# Altium footprint library PIF_HC05.PcbLib: 1 footprints
Each footprint in its own frame and in the unit in brackets; x right, y up, seen from the top. Pads: shape width x height; smd on the part's side, far side on the other; paste and mask are expansions set on the pad; w line width, h text height; cw(c..) or ccw(c..) is an arc to the next point about the centre after c.
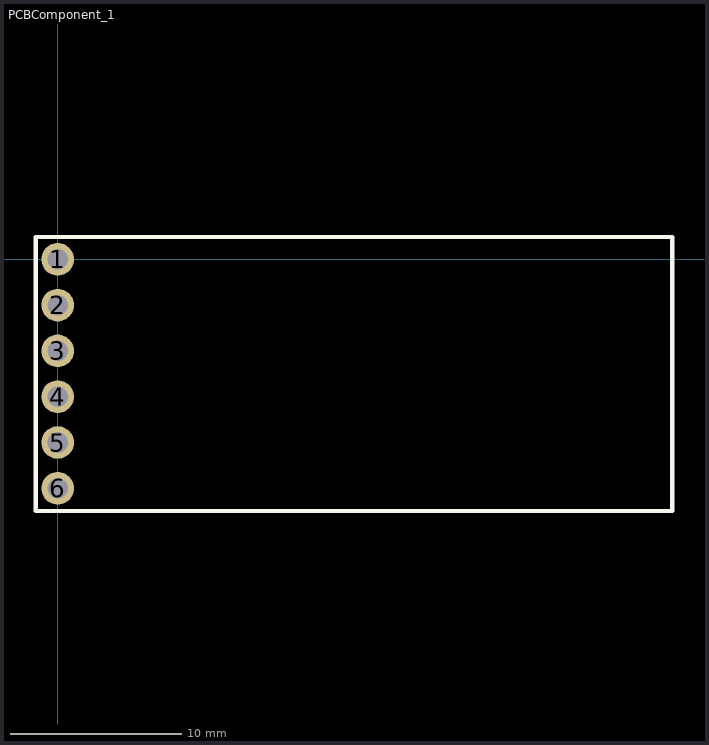
[diagram p0: the footprint, top view; thin cyan lines are the x and y axes]

## PCBComponent_1 [mm]
pads (6):
  round 1.9 hole 1.2 mask+0.102: 1(0,0) 2(0,-2.667) 3(0,-5.334) 4(0,-8.001) 5(0,-10.668) 6(0,-13.335)
Top Overlay:
  lines w0.254: 35.761,1.301 -1.273,1.301 -1.273,-14.659 35.78,-14.659 35.78,1.3
3D body "HC05.SLDPRT": height 5.68, standoff 0, extent -4.966,-14.542 35.659,1.458